# Altium schematic symbol library LE910C1.Schlib: 1 symbol
Pins are listed as number, name and electrical type; pins without a type are passive.

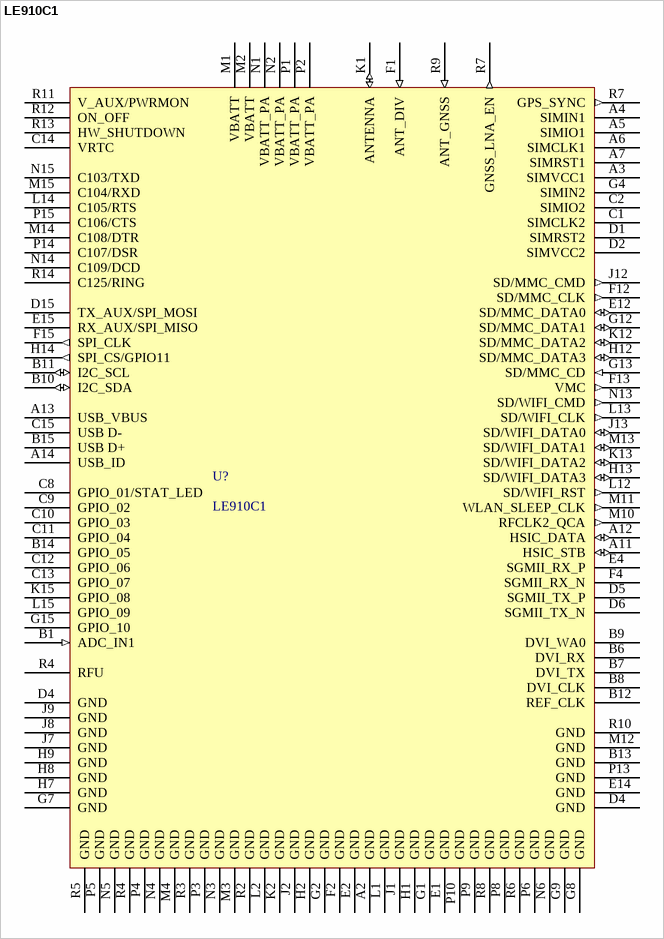
[diagram p0: symbol LE910C1]

## LE910C1
designator U?
LE910C1 GSM LTE Modem
pins: A2 GND, A3 SIMVCC1, A4 SIMIN1, A5 SIMIO1, A6 SIMCLK1, A7 SIMRST1, A11 HSIC_STB (io), A12 HSIC_DATA (io), A13 USB_VBUS, A14 USB_ID, B1 ADC_IN1 (in), B6 DVI_RX, B7 DVI_TX, B8 DVI_CLK, B9 DVI_WA0, B10 I2C_SDA (io), B11 I2C_SCL (io), B12 REF_CLK, B13 GND, B14 GPIO_05, B15 USB D+, C1 SIMCLK2, C2 SIMIO2, C8 GPIO_01/STAT_LED, C9 GPIO_02, C10 GPIO_03, C11 GPIO_04, C12 GPIO_06, C13 GPIO_07, C14 VRTC, C15 USB D-, D1 SIMRST2, D2 SIMVCC2, D4 GND, D4 GND, D5 SGMII_TX_P, D6 SGMII_TX_N, D15 TX_AUX/SPI_MOSI, E1 GND, E2 GND, E4 SGMII_RX_P, E12 SD/MMC_DATA0 (io), E14 GND, E15 RX_AUX/SPI_MISO, F1 ANT_DIV (in), F2 GND, F4 SGMII_RX_N, F12 SD/MMC_CLK (out), F13 VMC (out), F15 SPI_CLK (out), G1 GND, G2 GND, G4 SIMIN2, G7 GND, G8 GND, G9 GND, G12 SD/MMC_DATA1 (io), G13 SD/MMC_CD (in), G15 GPIO_10, H1 GND, H2 GND, H7 GND, H8 GND, H9 GND, H12 SD/MMC_DATA3 (io), H13 SD/WIFI_DATA3 (io), H14 SPI_CS/GPIO11 (out), J1 GND, J2 GND, J7 GND, J8 GND, J9 GND, J12 SD/MMC_CMD (out), J13 SD/WIFI_DATA0 (io), K1 ANTENNA (io), K2 GND, K12 SD/MMC_DATA2 (io), K13 SD/WIFI_DATA2 (io), K15 GPIO_08, L1 GND, L2 GND, L12 SD/WIFI_RST (out), L13 SD/WIFI_CLK (out), L14 C105/RTS, L15 GPIO_09, M1 VBATT, M2 VBATT, M3 GND, M4 GND, M10 RFCLK2_QCA (out), M11 WLAN_SLEEP_CLK (out), M12 GND, M13 SD/WIFI_DATA1 (io), M14 C108/DTR (hiz), M15 C104/RXD, N1 VBATT_PA, N2 VBATT_PA, N3 GND, N4 GND, N5 GND, N6 GND, N13 SD/WIFI_CMD (out), N14 C109/DCD, N15 C103/TXD, P1 VBATT_PA, P2 VBATT_PA, P3 GND, P4 GND, P5 GND, P6 GND, P8 GND, P9 GND, P10 GND, P13 GND, P14 C107/DSR, P15 C106/CTS, R2 GND, R3 GND, R4 GND, R4 RFU, R5 GND, R6 GND, R7 GNSS_LNA_EN (out), R7 GPS_SYNC (out), R8 GND, R9 ANT_GNSS (in), R10 GND, R11 V_AUX/PWRMON, R12 ON_OFF, R13 HW_SHUTDOWN, R14 C125/RING